# Altium footprint library PcbLib1.PcbLib: 35 footprints (part 3 of 3)
Each footprint in its own frame and in the unit in brackets; x right, y up, seen from the top. Pads: shape width x height; smd on the part's side, far side on the other; paste and mask are expansions set on the pad; w line width, h text height; cw(c..) or ccw(c..) is an arc to the next point about the centre after c.
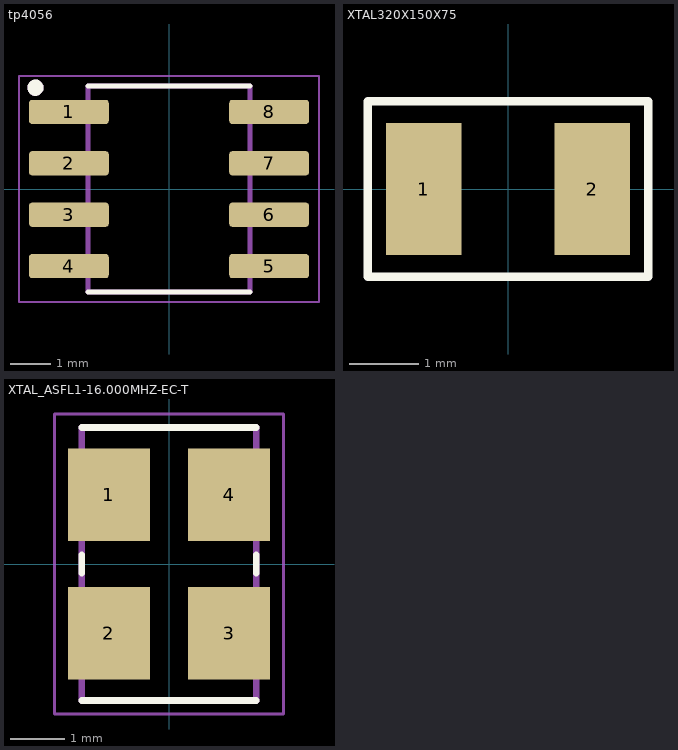
[diagram p2: the footprints below, top view; thin cyan lines are the x and y axes]

## tp4056 [mm]
height 1.75
pads (8):
  rrect25% 1.97x0.6 smd: 1(-2.475,1.905) 2(-2.475,0.635) 3(-2.475,-0.635) 4(-2.475,-1.905) 5(2.475,-1.905) 6(2.475,-0.635) 7(2.475,0.635) 8(2.475,1.905)
Top Overlay:
  circle w0.2: c-3.302,2.505 r0.1
  lines w0.127: -2,-2.55 2,-2.55 ; -2,2.55 2,2.55
Top Paste:
  region: 0.645,-0.82 -0.645,-0.82 -0.645,0.82 0.645,0.82
Mechanical 13:
  circle w0.2: c-3.302,2.505 r0.1
  lines w0.127: -2,-2.55 2,-2.55 2,2.55 -2,2.55 -2,-2.55
Mechanical 15:
  lines w0.05: -3.71,-2.8 3.71,-2.8 3.71,2.8 -3.71,2.8 -3.71,-2.8
3D body "step_temp.STEP": height 1.75, standoff 0, extent -3,-2.45 3,2.45

## XTAL320X150X75 [mil]
pads (2):
  rect 43x75 smd: 1(-48,0) 2(48,0)
Top Overlay:
  lines w5: -80,-50 80,-50 80,50 -80,50 -80,-50
3D body "9HT10-32.768KAZB-T.STEP": height 32.68, standoff -0.79, extent -62.99,-29.53 62.99,29.53

## XTAL_ASFL1-16.000MHZ-EC-T [mm]
height 1.3
pads (4):
  rect 1.5x1.7 smd: 1(-1.1,1.27) 2(-1.1,-1.27) 3(1.1,-1.27) 4(1.1,1.27)
Top Overlay:
  lines w0.127: -1.6,-2.5 1.6,-2.5 ; -1.6,-0.17 -1.6,0.17 ; -1.6,2.5 1.6,2.5 ; 1.6,-0.17 1.6,0.17
Mechanical 13:
  lines w0.127: -1.6,-2.5 -1.6,2.5 1.6,2.5 1.6,-2.5 -1.6,-2.5
Mechanical 15:
  lines w0.05: -2.1,-2.75 -2.1,2.75 2.1,2.75 2.1,-2.75 -2.1,-2.75
3D body "ASFL1-16.000MHZ-EC-T.STEP": height 1.28, standoff -0.02, extent -1.6,-2.5 1.6,2.5